# Altium schematic symbol library Miscellaneous Devices.SchLib: 201 symbols (part 2 of 3)
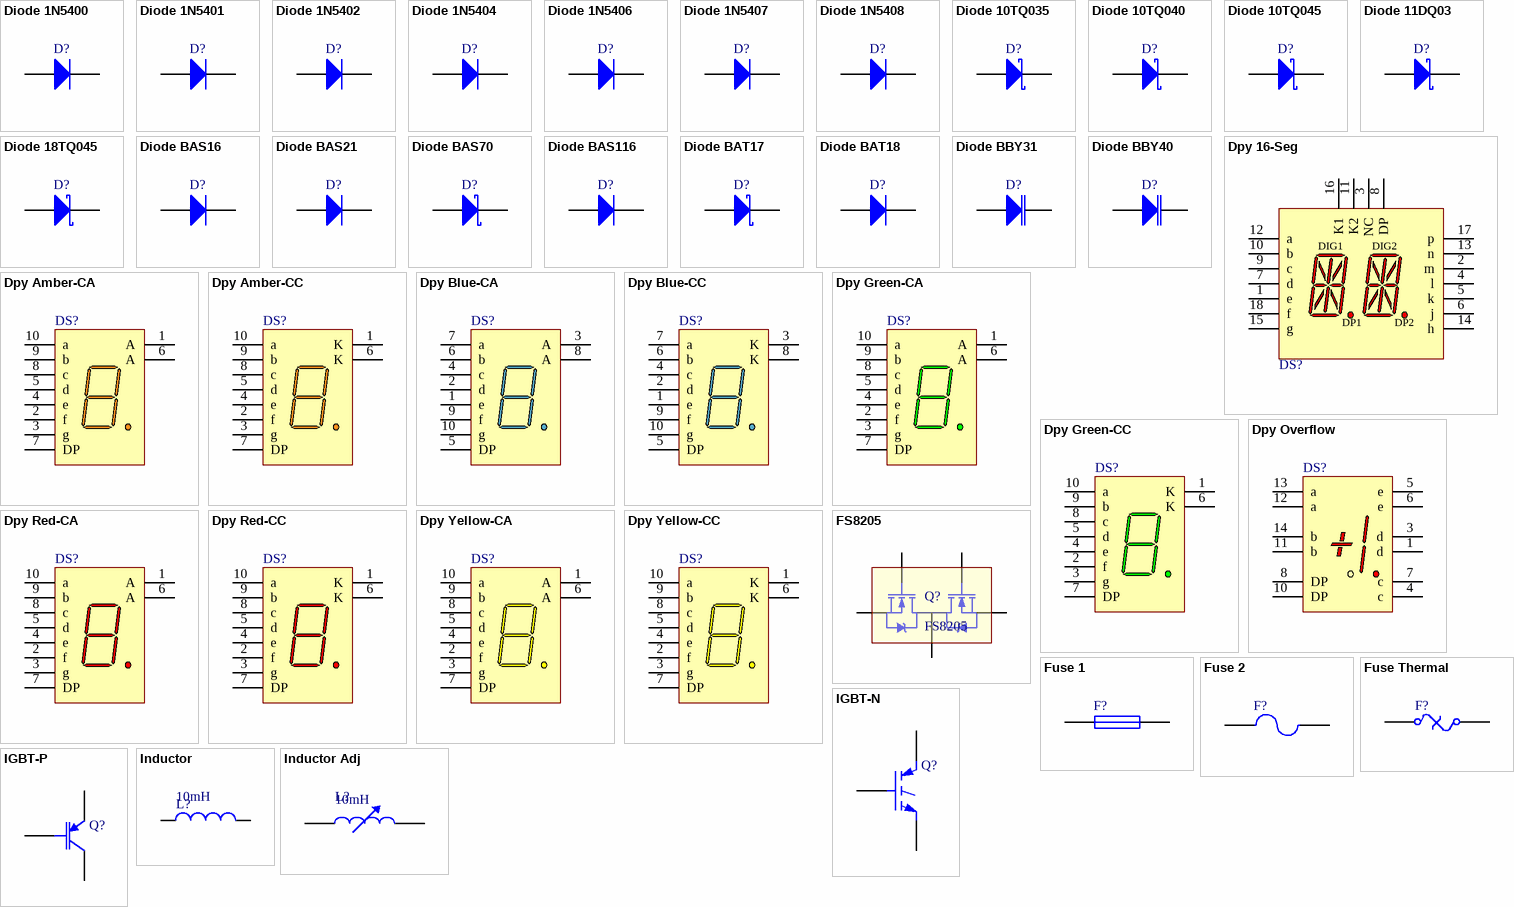
[diagram p6: symbols Diode 1N5400 to Inductor Adj]

## Dpy Yellow-CA
designator DS?
7.6 mm Micro Bright Yellow 7-Segment Display: CA, RH DP; MinimumIntensity: 225 ucd; Note: IF = 5 mA; Note: Pins 1 and 6 are redundant Anodes.; Published: 8-Jun-2000; LatestRevisionDate: 17-Dec-2003; LatestRevisionNote: Schematic revised, PCB Footprint replaced.; DatasheetVersion: 11-Feb-2002; PackageVersion: 11-Feb-2002; PackageReference: A; Publisher: Altium Limited; PackageDescription: LED, 7-Segment Display, 7.62 mm, RHD; 10 Leads; Row Space 5.08 mm; Pitch 2.54 mm; Colour: Yellow; ComponentLink1Description: Manufacturer Link; ComponentLink1URL: http://www.agilent.com/
footprint A (LED, 7-Segment Display, 7.62 mm, RHD; 10 Leads; Row Space 5.08 mm; Pitch 2.54 mm)
simulation model HDSP_7401 (SUBCKT)
pins: 1 A "Anode", 2 f "Cathode", 3 g "Cathode", 4 e "Cathode", 5 d "Cathode", 6 A "Anode", 7 DP "Cathode", 8 c "Cathode", 9 b "Cathode", 10 a "Cathode"

## Dpy Yellow-CC
designator DS?
7.6 mm Micro Bright Yellow 7-Segment Display: CC, RH DP; MinimumIntensity: 225 ucd; Note: IF = 5 mA; Note: Pins 1 and 6 are redundant Cathodes.; Published: 8-Jun-2000; LatestRevisionDate: 17-Dec-2003; LatestRevisionNote: Schematic revised, PCB Footprint replaced.; DatasheetVersion: 11-Feb-2002; PackageVersion: 11-Feb-2002; PackageReference: A; Publisher: Altium Limited; PackageDescription: LED, 7-Segment Display, 7.62 mm, RHD; 10 Leads; Row Space 5.08 mm; Pitch 2.54 mm; Colour: Yellow; ComponentLink1Description: Manufacturer Link; ComponentLink1URL: http://www.agilent.com/
footprint A (LED, 7-Segment Display, 7.62 mm, RHD; 10 Leads; Row Space 5.08 mm; Pitch 2.54 mm)
simulation model HDSP_7403 (SUBCKT)
pins: 1 K "Cathode", 2 f "Anode", 3 g "Anode", 4 e "Anode", 5 d "Anode", 6 K "Cathode", 7 DP "Anode", 8 c "Anode", 9 b "Anode", 10 a "Anode"

## FS8205
designator Q?
FS8205 Dual MOS
footprint SOT23-6_N (SOT23, 6-Leads, Body 2.9x1.6mm, Pitch 0.95mm, Lead Span 2.7mm, IPC Medium Density)
pins: 1 S1, 2 D12, 3 S2, 4 G2, 5 D12, 6 G1

## Fuse 1
designator F?
Fuse; Published: 8-Jun-2000; LatestRevisionDate: 17-Jul-2002; LatestRevisionNote: Re-released for DXP Platform.; PackageReference: PIN-W2/E2.8; Publisher: Altium Limited; PackageDescription: Thru-Hole; 2 Leads
footprint PIN-W2/E2.8 (Thru-Hole; 2 Leads)
simulation model FUSE (Spice Subcircuit)
pins: 1, 2

## Fuse 2
designator F?
Fuse; Published: 8-Jun-2000; LatestRevisionDate: 17-Jul-2002; LatestRevisionNote: Re-released for DXP Platform.; PackageReference: PIN-W2/E2.8; Publisher: Altium Limited; PackageDescription: Thru-Hole; 2 Leads
footprint PIN-W2/E2.8 (Thru-Hole; 2 Leads)
simulation model FUSE (Spice Subcircuit)
pins: 1, 2

## Fuse Thermal
designator F?
Thermal Fuse; Published: 24-Mar-1999; LatestRevisionDate: 17-Jul-2002; LatestRevisionNote: Re-released for DXP Platform.; PackageReference: PIN-W2/E2.8; Publisher: Altium Limited; PackageDescription: Thru-Hole; 2 Leads
footprint PIN-W2/E2.8 (Thru-Hole; 2 Leads)
pins: 1, 2

## IGBT-N
designator Q?
Insulated Gate Bipolar Transistor (N-Channel); Published: 8-Jun-2000; LatestRevisionDate: 17-Jul-2002; LatestRevisionNote: Re-released for DXP Platform.; DatasheetVersion: PD-9.684A; PackageReference: TO-247; Publisher: Altium Limited; PackageDescription: SIP with Mounting Hole; 3 Leads; Body 20 x 15.6 x 5 mm (typ); Pitch 5.45 mm; Code_JEDEC: TO-247-AC; ComponentLink1Description: Manufacturer Link; ComponentLink1URL: http://www.irf.com/
footprint TO-247 (SIP with Mounting Hole; 3 Leads; Body 20 x 15.6 x 5 mm (typ); Pitch 5.45 mm)
simulation model IRGPC40U (Spice Subcircuit)
pins: 1 G, 2 C, 3 E

## IGBT-P
designator Q?
PNP Bipolar Junction Transistor; Published: 8-Jun-2000; LatestRevisionDate: 17-Jul-2002; LatestRevisionNote: Re-released for DXP Platform.; PackageReference: TO-264-AA; Publisher: Altium Limited; Code_JEDEC: TO-264-AA
footprint TO-264-AA (SIP with Mounting Hole; 3 Leads; Body 26 x 20 x 5 mm (typ); Pitch 5.45 mm)
simulation model PIGBT (Spice Subcircuit)
pins: 1 C, 2 G, 3 E

## Inductor
designator L?  value 10mH
Inductor; Code_IEC: 1005; Published: 8-Jun-2000; LatestRevisionDate: 29-May-2009; LatestRevisionNote: IPC-7351 Footprint Added.; PackageReference: 0402-A; Publisher: Altium Limited; PackageDescription: Chip Inductor; Code_JEITA: 0402
footprint 0402-A (Chip Inductor, Body 1.0x0.5mm, IPC High Density)
footprint INDC1608L (Chip Inductor, Body 1.6x0.8mm, IPC High Density)
footprint 2029 (Chip Inductor, Body 2.0x1.2mm, IPC High Density)
footprint 0603 (Chip Inductor, Body 0.6x0.3mm, IPC High Density)
footprint INDC3216 (Chip Inductor, Body 3.2x1.6mm, IPC High Density)
footprint INDC4532 (Chip Inductor, Body 4.5x3.2mm, IPC High Density)
simulation model INDUCTOR (Inductor)
signal-integrity model Inductor
pins: 1, 2

## Inductor Adj
designator L?  value 10mH
Adjustable Inductor; Set Position: 0.5; Published: 24-Mar-1999; LatestRevisionDate: 17-Jul-2002; LatestRevisionNote: Re-released for DXP Platform.; PackageReference: AXIAL-0.8; Publisher: Altium Limited; PackageDescription: Axial Device, Thru-Hole; 2 Leads; 0.8 in Pin Spacing
footprint AXIAL-0.8 (Axial Device, Thru-Hole; 2 Leads; 0.8 in Pin Spacing)
simulation model INDUCTOR (Inductor)
signal-integrity model Inductor Adj
pins: 1, 2

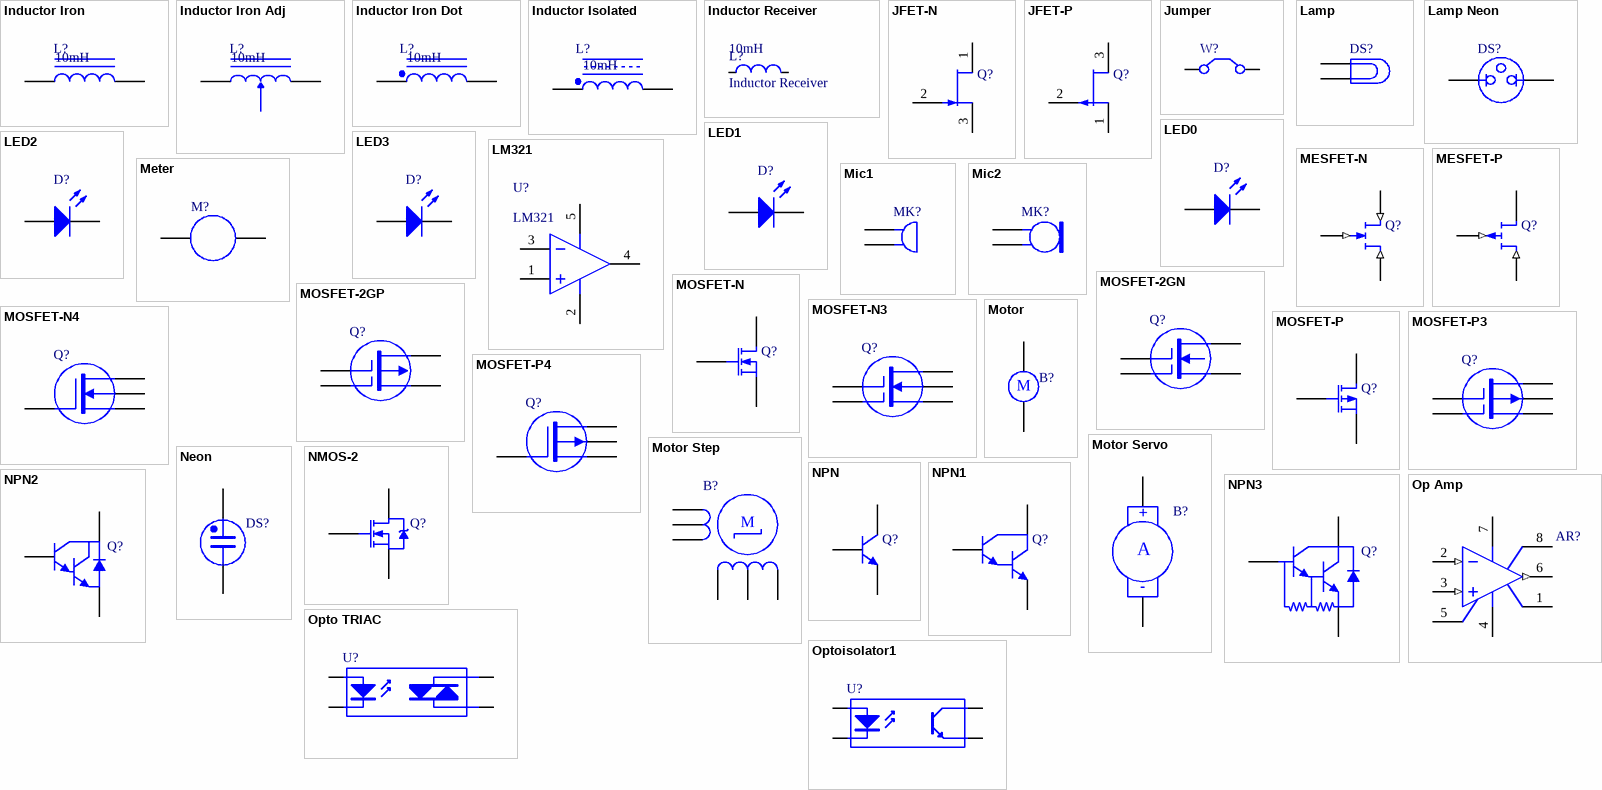
[diagram p2: symbols Inductor Iron to Optoisolator1]

## Inductor Iron
designator L?  value 10mH
Magnetic-Core Inductor; Published: 24-Mar-1999; LatestRevisionDate: 17-Jul-2002; LatestRevisionNote: Re-released for DXP Platform.; PackageReference: AXIAL-0.9; Publisher: Altium Limited; PackageDescription: Axial Device, Thru-Hole; 2 Leads; 0.9 in Pin Spacing
footprint AXIAL-0.9 (Axial Device, Thru-Hole; 2 Leads; 0.9 in Pin Spacing)
simulation model INDUCTOR (Inductor)
signal-integrity model Inductor Iron
pins: 1, 2

## Inductor Iron Adj
designator L?  value 10mH
Adjustable Magnetic-Core Inductor; Set Position: 0.5; Published: 24-Mar-1999; LatestRevisionDate: 17-Jul-2002; LatestRevisionNote: Re-released for DXP Platform.; PackageReference: AXIAL-1.0; Publisher: Altium Limited; PackageDescription: Axial Device, Thru-Hole; 2 Leads; 1.0 in Pin Spacing
footprint AXIAL-1.0 (Axial Device, Thru-Hole; 2 Leads; 1.0 in Pin Spacing)
simulation model INDUCTOR (Inductor)
signal-integrity model Inductor Iron Adj
pins: 1, 2

## Inductor Iron Dot
designator L?  value 10mH
Magnetic-Core Inductor with Winding Polarity Marking; Published: 24-Mar-1999; LatestRevisionDate: 17-Jul-2002; LatestRevisionNote: Re-released for DXP Platform.; PackageReference: DIODE_SMC; Publisher: Altium Limited; PackageDescription: Diode; 2 Leads
footprint DIODE_SMC (Diode; 2 Leads)
signal-integrity model Inductor Iron Dot
pins: 1, 2

## Inductor Isolated
designator L?  value 10mH
Isolated Inductor; Published: 24-Mar-1999; LatestRevisionDate: 17-Jul-2002; LatestRevisionNote: Re-released for DXP Platform.; PackageVersion: 1988; PackageReference: 425; Publisher: Altium Limited; PackageDescription: SOD-123; 2 Leads; Body 2.7 x 1.6 mm, (LxW)
footprint 425 (SOD-123; 2 Leads; Body 2.7 x 1.6 mm, (LxW))
signal-integrity model Inductor Isolated
pins: 1, 2

## Inductor Receiver
designator L?  value 10mH
Inductor; Code_IEC: 1005; Published: 8-Jun-2000; LatestRevisionDate: 29-May-2009; LatestRevisionNote: IPC-7351 Footprint Added.; PackageReference: 0402-A; Publisher: Altium Limited; PackageDescription: Chip Inductor; Code_JEITA: 0402
footprint 0402-A (Chip Inductor, Body 1.0x0.5mm, IPC High Density)
footprint INDC1608L (Chip Inductor, Body 1.6x0.8mm, IPC High Density)
footprint 2029 (Chip Inductor, Body 2.0x1.2mm, IPC High Density)
footprint 0603 (Chip Inductor, Body 0.6x0.3mm, IPC High Density)
footprint INDC3216 (Chip Inductor, Body 3.2x1.6mm, IPC High Density)
footprint INDC4532 (Chip Inductor, Body 4.5x3.2mm, IPC High Density)
simulation model INDUCTOR (Inductor)
signal-integrity model Inductor
pins: 1, 2

## JFET-N
designator Q?
N-Channel JFET; Published: 8-Jun-2000; LatestRevisionDate: 17-Jul-2002; LatestRevisionNote: Re-released for DXP Platform.; PackageReference: TO-254-AA; Publisher: Altium Limited; Code_JEDEC: TO-254-AA
footprint TO-254-AA (TO, Thru-Hole, Vertical, Heatsink Mounted; 3 In-Line Leads; Pitch 3.81 mm)
simulation model NJFET
pins: 1 D, 2 G, 3 S

## JFET-P
designator Q?
P-Channel JFET; Published: 8-Jun-2000; LatestRevisionDate: 17-Jul-2002; LatestRevisionNote: Re-released for DXP Platform.; PackageReference: TO-18A; Publisher: Altium Limited; PackageDescription: SC-89; 3 Flat Leads; Body 1.6 x 1.6 x 0.7 mm, inc leads (LxWxH typ)
footprint TO-18A (SC-89; 3 Flat Leads; Body 1.6 x 1.6 x 0.7 mm, inc leads (LxWxH typ))
simulation model PJFET
pins: 1 D, 2 G, 3 S

## Jumper
designator W?
Jumper Wire; Published: 24-Mar-1999; LatestRevisionDate: 17-Jul-2002; LatestRevisionNote: Re-released for DXP Platform.; PackageReference: RAD-0.2; Publisher: Altium Limited; PackageDescription: Radial Cap, Thru-Hole; 2 Leads; 0.2 in Pin Spacing
footprint RAD-0.2 (Radial Cap, Thru-Hole; 2 Leads; 0.2 in Pin Spacing)
pins: 1 C1, 2 C2

## Lamp
designator DS?
Incandescent Bulb; Published: 24-Mar-1999; LatestRevisionDate: 17-Jul-2002; LatestRevisionNote: Re-released for DXP Platform.; PackageReference: PIN2; Publisher: Altium Limited
footprint PIN2 (Incandescent Bulb; 2 Leads)
pins: 1, 2

## Lamp Neon
designator DS?
Neon Lamp; Published: 24-Mar-1999; LatestRevisionDate: 17-Jul-2002; LatestRevisionNote: Re-released for DXP Platform.; PackageReference: PIN2; Publisher: Altium Limited
footprint PIN2 (Neon Lamp; 2 Leads)
pins: 1, 2

## LED0
designator D?
Typical INFRARED GaAs LED; Published: 8-Jun-2000; LatestRevisionDate: 08-Jul-2005; LatestRevisionNote: Mech Layer 1 removed.; PackageReference: LED-0; Publisher: Altium Limited; PackageDescription: LED; 2 Leads
footprint LED-0 (LED; 2 Leads)
simulation model LED0 (Diode)
pins: 1 A, 2 K

## LED1
designator D?
Typical RED GaAs LED; Published: 8-Jun-2000; LatestRevisionDate: 08-Jul-2005; LatestRevisionNote: Mech Layer 1 removed.; PackageReference: LED-1; Publisher: Altium Limited; PackageDescription: LED; 2 Leads
footprint LED-1 (LED; 2 Leads)
simulation model LED1 (Diode)
pins: 1 A, 2 K

## LED2
designator D?
Typical RED, GREEN, YELLOW, AMBER GaAs LED; Published: 8-Jun-2000; LatestRevisionDate: 17-Jul-2002; LatestRevisionNote: Re-released for DXP Platform.; PackageVersion: Feb-2002; PackageReference: 3.2X1.6X1.1; Publisher: Altium Limited; PackageDescription: SM LED; 2 Flat Leads
footprint 3.2X1.6X1.1 (SMT LED; 2 Flat Leads)
simulation model LED2 (Diode)
pins: 1 A, 2 K

## LED3
designator D?
Typical BLUE SiC LED; Published: 8-Jun-2000; LatestRevisionDate: 17-Dec-2003; LatestRevisionNote: PCB Footprint replaced.; DatasheetVersion: 16-Apr-2002; PackageVersion: 16-Apr-2002; PackageReference: 3.5X2.8X1.9; Publisher: Altium Limited; PackageDescription: SM LED; 2 C-Bend Leads; Body 3.5 x 2.8 x 1.9 mm, inc leads (LxWxH typ)
footprint 3.5X2.8X1.9 (SM LED; 2 C-Bend Leads; Body 3.5 x 2.8 x 1.9 mm, inc leads (LxWxH typ))
simulation model LED3 (Diode)
signal-integrity model LED
pins: 1 A, 2 K

## LM321
designator U?
Op Amp
footprint SOT23_5
pins: 1 IN+, 2 V- (power), 3 IN-, 4 OUT, 5 V+ (power)

## MESFET-N
designator Q?
N-Channel MESFET; Published: 8-Jun-2000; LatestRevisionDate: 17-Jul-2002; LatestRevisionNote: Re-released for DXP Platform.; PackageReference: TO-18; Publisher: Altium Limited; PackageDescription: Can; 3 Leads; Pin Circle Dia. 2.54 mm; Lead Dia. 0.48 mm (max); Code_JEDEC: TO-18
footprint TO-18 (Can; 3 Leads; Pin Circle Dia. 2.54 mm; Lead Dia. 0.48 mm (max))
simulation model NMESFET (MESFET-N)
pins: 1 D (in), 2 G (in), 3 S (in)

## MESFET-P
designator Q?
P-Channel MESFET; Published: 8-Jun-2000; LatestRevisionDate: 17-Jul-2002; LatestRevisionNote: Re-released for DXP Platform.; PackageReference: TO-18; Publisher: Altium Limited; PackageDescription: Can; 3 Leads; Pin Circle Dia. 2.54 mm; Lead Dia. 0.48 mm (max); Code_JEDEC: TO-18
footprint TO-18 (Can; 3 Leads; Pin Circle Dia. 2.54 mm; Lead Dia. 0.48 mm (max))
simulation model PMESFET (MESFET-P)
pins: 1 D (in), 2 G (in), 3 S

## Meter
designator M?
Indicating Instrument; Note: Place a "letter" into the symbol to show the function of the meter or instrument; Published: 24-Mar-1999; LatestRevisionDate: 17-Jul-2002; LatestRevisionNote: Re-released for DXP Platform.; PackageReference: RAD-0.1; Publisher: Altium Limited; PackageDescription: Radial Cap, Thru-Hole; 2 Leads; 0.1 in Pin Spacing
footprint RAD-0.1 (Radial Cap, Thru-Hole; 2 Leads; 0.1 in Pin Spacing)
pins: 1, 2

## Mic1
designator MK?
Microphone; Published: 24-Mar-1999; LatestRevisionDate: 17-Jul-2002; LatestRevisionNote: Re-released for DXP Platform.; PackageReference: PIN2; Publisher: Altium Limited
footprint PIN2 (Microphone; 2 Leads)
pins: 1, 2

## Mic2
designator MK?
Microphone; Published: 24-Mar-1999; LatestRevisionDate: 17-Jul-2002; LatestRevisionNote: Re-released for DXP Platform.; PackageReference: PIN2; Publisher: Altium Limited
footprint PIN2 (Microphone; 2 Leads)
pins: 1, 2

## MOSFET-2GN
designator Q?
Two-Gate, N-Channel MOSFET; Published: 24-Mar-1999; LatestRevisionDate: 17-Jul-2002; LatestRevisionNote: Re-released for DXP Platform.; PackageReference: T05A; Publisher: Altium Limited; PackageDescription: TO-220, Molded, 5 Lead, Straight; Code_JEDEC: TS-001-AA
footprint T05A (TO, Thru-Hole, Vertical, Heatsink Mounted; 5 In-Line Leads; Pitch 1.70 mm)
pins: 1 G1, 2 G2, 3 D, 4 S

## MOSFET-2GP
designator Q?
Two-Gate, P-Channel MOSFET; Published: 24-Mar-1999; LatestRevisionDate: 29-May-2009; LatestRevisionNote: IPC-7351 Footprint Added.; PackageVersion: Sep-2000; PackageReference: SOT-143; Publisher: Altium Limited; PackageDescription: 4-Pin SOT-143 Package 1.9 mm Pitch, 2.5 mm Lead Span; Code_JEDEC: TO-253-AA; Code_IPC: SOT143
footprint SOT-143_N (SOT143, 4-Leads, Body 2.9x1.3mm, Pitch 1.9mm, Lead Span 2.5mm, IPC Medium Density)
footprint SOT-143_L (SOT143, 4-Leads, Body 2.9x1.3mm, Pitch 1.9mm, Lead Span 2.5mm, IPC High Density)
footprint SOT-143_M (SOT143, 4-Leads, Body 2.9x1.3mm, Pitch 1.9mm, Lead Span 2.5mm, IPC Low Density)
pins: 1 G1, 2 G2, 3 D, 4 S

## MOSFET-N
designator Q?
N-Channel MOSFET; Published: 8-Jun-2000; LatestRevisionDate: 17-Jul-2002; LatestRevisionNote: Re-released for DXP Platform.; PackageVersion: 1995/1996; PackageReference: E3; Publisher: Altium Limited; PackageDescription: TO, Flat Index; 3 In-Line, Axial Leads; Body Dia. 4.6mm; Lead Dia. 0.5 mm (max)
footprint E3 (TO, Flat Index; 3 In-Line, Axial Leads; Body Dia. 4.6mm; Lead Dia. 0.5 mm (max))
simulation model NMOS (MOSFET-N)
pins: 1 D, 2 G, 3 S

## MOSFET-N3
designator Q?
Two-Gate, N-Channel MOSFET, Externally Terminated Substrate; Published: 24-Mar-1999; LatestRevisionDate: 17-Jul-2002; LatestRevisionNote: Re-released for DXP Platform.; PackageReference: T05A; Publisher: Altium Limited; PackageDescription: TO-220, Molded, 5 Lead, Straight; Code_JEDEC: TS-001-AA
footprint T05A (TO, Thru-Hole, Vertical, Heatsink Mounted; 5 In-Line Leads; Pitch 1.70 mm)
pins: 1 G1, 2 G2, 3 D, 4 U, 5 S

## MOSFET-N4
designator Q?
N-Channel MOSFET, Externally Terminated Substrate; Published: 24-Mar-1999; LatestRevisionDate: 29-May-2009; LatestRevisionNote: IPC-7351 Footprint Added.; PackageVersion: Sep-2000; PackageReference: SOT-343; Publisher: Altium Limited; PackageDescription: 4-Pin SOT-343 Package 1.3 mm Pitch, 2.1 mm Lead Span
footprint SOT-343_N (SOT343, 4-Leads, Body 2x1.3 mm, Pitch 1.3mm, Lead Span 2.1mm, IPC Medium Density)
footprint SOT-343_L (SOT343, 4-Leads, Body 2x1.3 mm, Pitch 1.3mm, Lead Span 2.1mm, IPC High Density)
footprint SOT-343_M (SOT343, 4-Leads, Body 2x1.3 mm, Pitch 1.3mm, Lead Span 2.1mm, IPC Low Density)
simulation model NMOS (MOSFET-N)
pins: 1 G, 2 D, 3 U, 4 S

## MOSFET-P
designator Q?
P-Channel MOSFET; Published: 8-Jun-2000; LatestRevisionDate: 17-Jul-2002; LatestRevisionNote: Re-released for DXP Platform.; PackageVersion: 1995/1996; PackageReference: E3; Publisher: Altium Limited; PackageDescription: TO, Flat Index; 3 In-Line, Axial Leads; Body Dia. 4.6mm; Lead Dia. 0.5 mm (max)
footprint E3 (TO, Flat Index; 3 In-Line, Axial Leads; Body Dia. 4.6mm; Lead Dia. 0.5 mm (max))
simulation model PMOS (MOSFET-P)
pins: 1 D, 2 G, 3 S

## MOSFET-P3
designator Q?
Two-Gate, P-Channel MOSFET, Externally Terminated Substrate; Published: 24-Mar-1999; LatestRevisionDate: 17-Jul-2002; LatestRevisionNote: Re-released for DXP Platform.; PackageReference: T05B; Publisher: Altium Limited; PackageDescription: TO, Thru-Hole, Vertical, Heatsink Mounted; 5 Bent Staggered Leads; Pitch 1.7 mm
footprint T05B (TO, Thru-Hole, Vertical, Heatsink Mounted; 5 Bent Staggered Leads; Pitch 1.7 mm)
pins: 1 G1, 2 G2, 3 D, 4 U, 5 S

## MOSFET-P4
designator Q?
P-Channel MOSFET, Externally Terminated Substrate; Published: 24-Mar-1999; LatestRevisionDate: 29-May-2009; LatestRevisionNote: IPC-7351 Footprint Added.; PackageVersion: 2002; PackageReference: SOT223; Publisher: Altium Limited; PackageDescription: 4-Pin SOT-223 Package 2.3 mm Pitch, 7 mm Lead Span; Code_JEITA: SC-75; Code_JEDEC: TO-261-AA-B; Code_IPC: SOT223-4
footprint SOT223_N (SOT223, 4-Leads, Body 6.5x3.5mm, Pitch 2.3mm, Lead Span 7mm, IPC Medium Density)
footprint SOT223_L (SOT223, 4-Leads, Body 6.5x3.5mm, Pitch 2.3mm, Lead Span 7mm, IPC High Density)
footprint SOT223_M (SOT223, 4-Leads, Body 6.5x3.5mm, Pitch 2.3mm, Lead Span 7mm, IPC Low Density)
simulation model PMOS (MOSFET-P)
pins: 1 G, 2 D, 3 U, 4 S

## Motor
designator B?
Motor, General Kind; Published: 24-Mar-1999; LatestRevisionDate: 17-Jul-2002; LatestRevisionNote: Re-released for DXP Platform.; PackageReference: RB5-10.5; Publisher: Altium Limited; PackageDescription: Capacitor (Radial); 2 Leads
footprint RB5-10.5 (Capacitor (Radial); 2 Leads)
pins: 1, 2
text: M

## Motor Servo
designator B?
Servo Motor; Published: 24-Mar-1999; LatestRevisionDate: 17-Jul-2002; LatestRevisionNote: Re-released for DXP Platform.; PackageReference: RAD-0.4; Publisher: Altium Limited; PackageDescription: Radial Cap, Thru-Hole; 2 Leads; 0.4 in Pin Spacing
footprint RAD-0.4 (Radial Cap, Thru-Hole; 2 Leads; 0.4 in Pin Spacing)
pins: 1 +, 2 -
text: A

## Motor Step
designator B?
Motor Stepper; Published: 24-Mar-1999; LatestRevisionDate: 17-Jul-2002; LatestRevisionNote: Re-released for DXP Platform.; PackageReference: DIP-6; Publisher: Altium Limited; Code_JEDEC: MO-001-AM
footprint DIP-6 (DIP; 6 Leads; Row Spacing 7.62 mm; Pitch 2.54 mm)
pins: 1, 2, 3, 4, 5, 6
text: M

## Neon
designator DS?
Neon Bulb; Published: 24-Mar-1999; LatestRevisionDate: 17-Jul-2002; LatestRevisionNote: Re-released for DXP Platform.; PackageReference: PIN2; Publisher: Altium Limited
footprint PIN2 (Neon Bulb; 2 Leads)
pins: 1, 2

## NMOS-2
designator Q?
N-Channel Power MOSFET; Note: Pin 2 is electrically connected to pin 4.; Published: 8-Jun-2000; LatestRevisionDate: 17-Jul-2002; LatestRevisionNote: Re-released for DXP Platform.; DatasheetVersion: PD-9.814; PackageVersion: Feb-1997; PackageReference: TO-220AB; Publisher: Altium Limited; PackageDescription: TO, Thru-Hole, Vertical, Heatsink Mounted; 3 In-Line Leads; Pitch 2.54 mm; ComponentLink1Description: Manufacturer Link; ComponentLink1URL: http://www.irf.com/
footprint TO-220AB (TO, Thru-Hole, Vertical, Heatsink Mounted; 3 In-Line Leads; Pitch 2.54 mm)
simulation model IRF1010 (Spice Subcircuit)
pins: 1 G, 2 D, 3 S

## NPN
designator Q?
NPN Bipolar Transistor; Published: 8-Jun-2000; LatestRevisionDate: 17-Jul-2002; LatestRevisionNote: Re-released for DXP Platform.; PackageReference: TO-226-AA; Publisher: Altium Limited; PackageDescription: TO, Flat Index; 3 In-Line, Axial Leads; Body Dia. 4.8mm; Leads 0.55 x 0.51 mm (max); Code_JEDEC: TO-226-AA
footprint TO-226-AA (TO, Flat Index; 3 In-Line, Axial Leads; Body Dia. 4.8mm; Leads 0.55 x 0.51 mm (max))
simulation model NPN
signal-integrity model NPN
pins: 1 C, 2 B, 3 E

## NPN1
designator Q?
NPN Darlington Bipolar Transistor; Published: 8-Jun-2000; LatestRevisionDate: 17-Jul-2002; LatestRevisionNote: Re-released for DXP Platform.; DatasheetVersion: 1989; PackageVersion: 1989; PackageReference: TO-92; Publisher: Altium Limited; PackageDescription: TO, Flat Index; 3 In-Line, Axial Leads; Body Dia. 4.6mm; Leads 0.41 x 0.39 mm (max); Code_JEDEC: TO-92
footprint TO-92 (TO, Flat Index; 3 In-Line, Axial Leads; Body Dia. 4.6mm; Leads 0.41 x 0.39 mm (max))
simulation model NPN1 (Spice Subcircuit)
signal-integrity model NPN
pins: 1 C, 2 B, 3 E

## NPN2
designator Q?
NPN Darlington Bipolar Transistor; Published: 8-Jun-2000; LatestRevisionDate: 17-Jul-2002; LatestRevisionNote: Re-released for DXP Platform.; PackageReference: TO-226-AE; Publisher: Altium Limited; PackageDescription: TO, Flat Index; 3 In-Line, Axial Leads; Body Dia. 4.8mm; Leads 0.55 x 0.51 mm (max); Code_JEDEC: TO-226-AE
footprint TO-226-AE (TO, Flat Index; 3 In-Line, Axial Leads; Body Dia. 4.8mm; Leads 0.55 x 0.51 mm (max))
simulation model NPN2 (Spice Subcircuit)
signal-integrity model NPN
pins: 1 C, 2 B, 3 E

## NPN3
designator Q?
NPN Darlington Bipolar Transistor; Published: 8-Jun-2000; LatestRevisionDate: 17-Jul-2002; LatestRevisionNote: Re-released for DXP Platform.; PackageReference: TO-237-AA; Publisher: Altium Limited; PackageDescription: TO, Flat Index; 3 In-Line, Axial Leads; Body Dia. 4.8mm; Lead Dia. 0.56 mm (max); Code_JEDEC: TO-237-AA
footprint TO-237-AA (TO, Flat Index; 3 In-Line, Axial Leads; Body Dia. 4.8mm; Lead Dia. 0.56 mm (max))
simulation model NPN3 (Spice Subcircuit)
signal-integrity model NPN
pins: 1 C, 2 B, 3 E

## Op Amp
designator AR?
FET Operational Amplifier; Published: 8-Jun-2000; LatestRevisionDate: 17-Jul-2002; LatestRevisionNote: Re-released for DXP Platform.; DatasheetVersion: REV. B; PackageVersion: 1990; PackageReference: H-08A; Publisher: Altium Limited; PackageDescription: Can; 8 Leads; Pin Circle Dia. 5.08 mm; Lead Dia. 0.53 mm (max); ComponentLink1Description: Manufacturer Link; ComponentLink1URL: http://www.analog.com/
footprint H-08A (Can; 8 Leads; Pin Circle Dia. 5.08 mm; Lead Dia. 0.53 mm (max))
simulation model AD645A (Spice Subcircuit)
pins: 1 OS NUL, 2 IN- (in), 3 IN+ (in), 4 V- (power), 5 OS NUL, 6 OUT (out), 7 V+ (power), 8 TAB

## Opto TRIAC
designator U?
Opto-Triac; Published: 24-Mar-1999; LatestRevisionDate: 17-Jul-2002; LatestRevisionNote: Re-released for DXP Platform.; PackageReference: NPSIP4A; Publisher: Altium Limited; PackageDescription: SIP; 4 Leads; Body 10 x 11.5 x 7.5 mm (typ); Pitch 2.54 mm
footprint NPSIP4A (SIP; 4 Leads; Body 10 x 11.5 x 7.5 mm (typ); Pitch 2.54 mm)
pins: 1 A, 2 K, 3 A/K, 4 A/K

## Optoisolator1
designator U?
4-Pin Phototransistor Optocoupler; Published: 24-Mar-1999; LatestRevisionDate: 04-Mar-2005; LatestRevisionNote: Sch pins 3 & 4 Swapped.; DatasheetVersion: Nov-2003; PackageReference: DIP-4; Publisher: Altium Limited
footprint DIP-4 (DIP; 4 Leads; Row Spacing 7.62 mm; Pitch 2.54 mm)
pins: 1 A "Anode", 2 K "Cathode", 3 E "Emitter", 4 C "Collector"

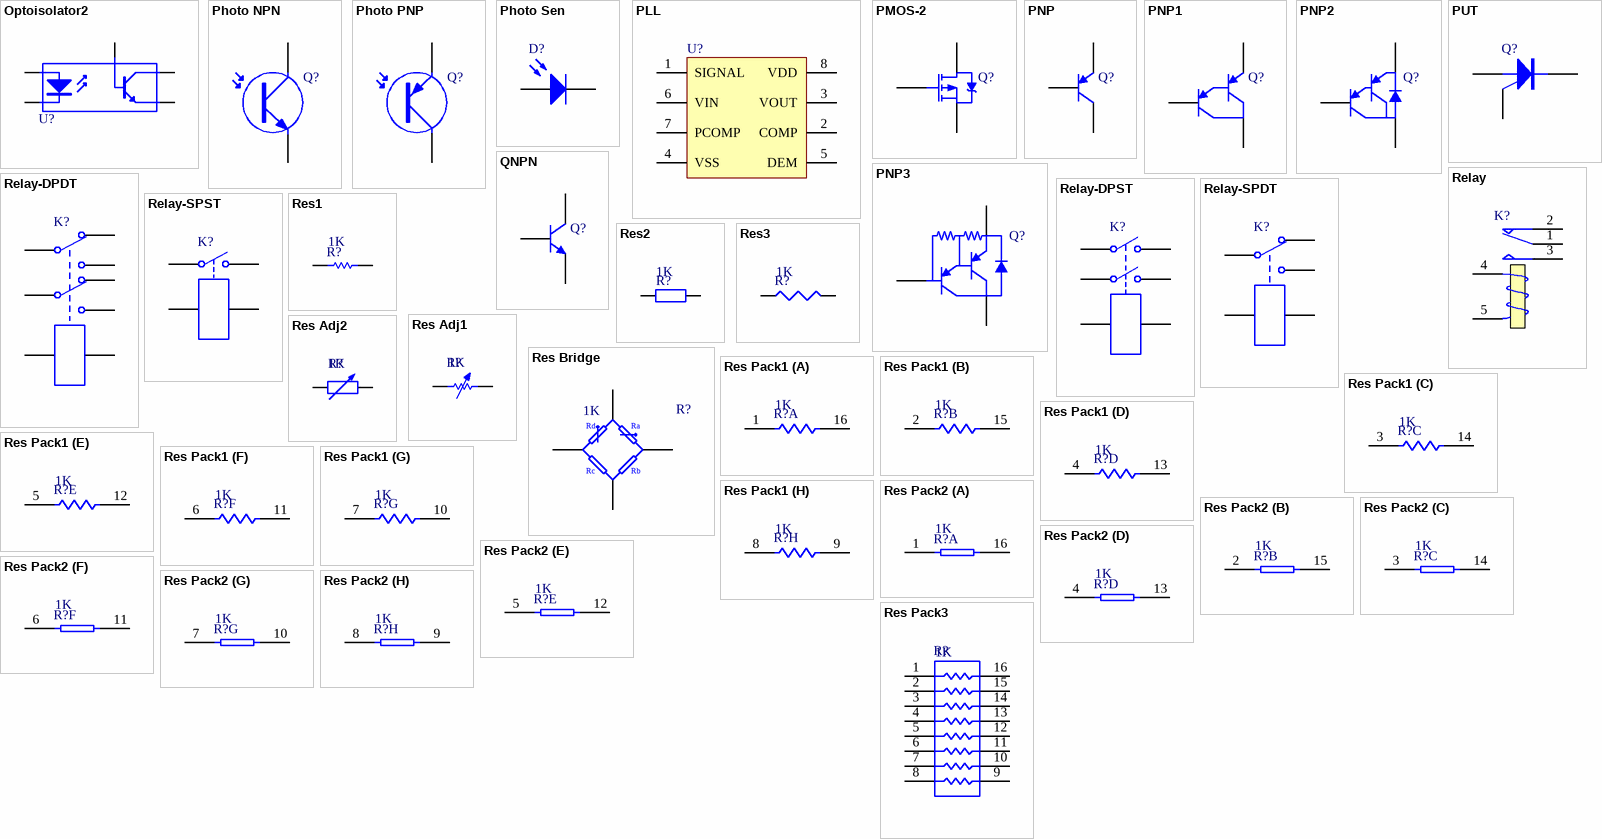
[diagram p3: symbols Optoisolator2 to Res Pack3]

## Optoisolator2
designator U?
5 Pin Mini Flat Pack Optocoupler; Published: 24-Mar-1999; LatestRevisionDate: 04-Mar-2005; LatestRevisionNote: PCB Footprint replaced, Sch pins re-numbered.; DatasheetVersion: Apr-2004; PackageReference: SOP5(6); Publisher: Altium Limited; PackageDescription: Small Outline; 6 Leads (1 Absent); Body Width 4.4 mm; Pitch 1.27 mm
footprint SOP5(6) (Small Outline; 6 Leads (1 Absent); Body Width 4.4 mm; Pitch 1.27 mm)
simulation model OPTOISO (Spice Subcircuit)
pins: 1 A "Anode", 3 K "Cathode", 4 E "Emitter", 5 C "Collector", 6 B "Base"

## Photo NPN
designator Q?
NPN Phototransistor; Published: 24-Mar-1999; LatestRevisionDate: 17-Jul-2002; LatestRevisionNote: Re-released for DXP Platform.; PackageReference: TO-220_A; Publisher: Altium Limited; Code_JEDEC: TO-220-AC
footprint TO-220_A (TO, Thru-Hole, Vertical, Heatsink Mounted; 3 In-Line Leads (1 Absent); Pitch 2.54 mm)
pins: 1 C, 3 E

## Photo PNP
designator Q?
PNP Phototransistor; Published: 24-Mar-1999; LatestRevisionDate: 17-Jul-2002; LatestRevisionNote: Re-released for DXP Platform.; PackageReference: TO-220_A; Publisher: Altium Limited; Code_JEDEC: TO-220-AC
footprint TO-220_A (TO, Thru-Hole, Vertical, Heatsink Mounted; 3 In-Line Leads (1 Absent); Pitch 2.54 mm)
pins: 1 C, 3 E

## Photo Sen
designator D?
Photosensitive Diode; Published: 24-Mar-1999; LatestRevisionDate: 17-Jul-2002; LatestRevisionNote: Re-released for DXP Platform.; PackageReference: PIN2; Publisher: Altium Limited
footprint PIN2 (Photosensitive Diode; 2 Leads)
pins: 1 A, 2 K

## PLL
designator U?
Generic Phase Locked Loop; Published: 8-Jun-2000; LatestRevisionDate: 29-May-2009; LatestRevisionNote: IPC-7351 Footprint Added.; PackageVersion: May-1999; PackageReference: DB008; Publisher: Altium Limited; PackageDescription: 8-Pin Plastic Small Outline Package 0.65 mm Pitch; Code_JEDEC: MO-150-AA; Code_IPC: SOP65P780-8
footprint DB008_N (SOP, 8-Leads, Body 3x5.3mm, Pitch 0.65mm, IPC Medium Density)
footprint DB008_L (SOP, 8-Leads, Body 3x5.3mm, Pitch 0.65mm, IPC High Density)
footprint DB008_M (SOP, 8-Leads, Body 3x5.3mm, Pitch 0.65mm, IPC Low Density)
simulation model PLLx (Spice Subcircuit)
pins: 1 SIGNAL, 2 COMP, 3 VOUT, 4 VSS, 5 DEM, 6 VIN, 7 PCOMP, 8 VDD

## PMOS-2
designator Q?
P-Channel Power MOSFET; Note: Pin 4 not drawn and electrically connected to Pin 2.; Published: 8-Jun-2000; LatestRevisionDate: 17-Jul-2002; LatestRevisionNote: Re-released for DXP Platform.; DatasheetVersion: PD-9.390D; PackageVersion: Feb-1997; PackageReference: TO-220AB; Publisher: Altium Limited; PackageDescription: TO, Thru-Hole, Vertical, Heatsink Mounted; 3 In-Line Leads; Pitch 2.54 mm; ComponentLink1Description: Manufacturer Link; ComponentLink1URL: http://www.irf.com/
footprint TO-220AB (TO, Thru-Hole, Vertical, Heatsink Mounted; 3 In-Line Leads; Pitch 2.54 mm)
simulation model IRF9510 (Spice Subcircuit)
pins: 1 G, 2 D, 3 S

## PNP
designator Q?
PNP Bipolar Transistor; Published: 8-Jun-2000; LatestRevisionDate: 29-May-2009; LatestRevisionNote: IPC-7351 Footprint Added.; PackageVersion: Aug-1999; PackageReference: SOT-23B; Publisher: Altium Limited; PackageDescription: 3-Pin SOT-23 Package 0.95 mm Pitch, 2.4 mm Lead Span
footprint SOT-23B_N (SOT23, 3-Leads, Body 2.9x1.3mm, Pitch 0.95mm, Lead Span 2.4mm, IPC Medium Density)
footprint SOT-23B_L (SOT23, 3-Leads, Body 2.9x1.3mm, Pitch 0.95mm, Lead Span 2.4mm, IPC High Density)
footprint SOT-23B_M (SOT23, 3-Leads, Body 2.9x1.3mm, Pitch 0.95mm, Lead Span 2.4mm, IPC Low Density)
simulation model PNP
signal-integrity model PNP
pins: 1 C, 2 B, 3 E

## PNP1
designator Q?
PNP Darlington Bipolar Transistor; Published: 8-Jun-2000; LatestRevisionDate: 17-Jul-2002; LatestRevisionNote: Re-released for DXP Platform.; DatasheetVersion: May-1994; PackageVersion: 1995/1996; PackageReference: E3; Publisher: Altium Limited; PackageDescription: TO, Flat Index; 3 In-Line, Axial Leads; Body Dia. 4.6mm; Lead Dia. 0.5 mm (max); ComponentLink1Description: Manufacturer Link; ComponentLink1URL: http://www.zetex.com/
footprint E3 (TO, Flat Index; 3 In-Line, Axial Leads; Body Dia. 4.6mm; Lead Dia. 0.5 mm (max))
simulation model PNP1 (Spice Subcircuit)
signal-integrity model PNP
pins: 1 E, 2 B, 3 C

## PNP2
designator Q?
PNP Darlington Bipolar Transistor; Published: 8-Jun-2000; LatestRevisionDate: 17-Jul-2002; LatestRevisionNote: Re-released for DXP Platform.; PackageReference: TO-226-AE; Publisher: Altium Limited; PackageDescription: TO, Flat Index; 3 In-Line, Axial Leads; Body Dia. 4.8mm; Leads 0.55 x 0.51 mm (max); Code_JEDEC: TO-226-AA
footprint TO-226-AE (TO, Flat Index; 3 In-Line, Axial Leads; Body Dia. 4.8mm; Leads 0.55 x 0.51 mm (max))
simulation model PNP2 (Spice Subcircuit)
signal-integrity model PNP
pins: 1 C, 2 B, 3 E

## PNP3
designator Q?
PNP Darlington Bipolar Transistor; Published: 8-Jun-2000; LatestRevisionDate: 17-Jul-2002; LatestRevisionNote: Re-released for DXP Platform.; PackageReference: TO-226-AE; Publisher: Altium Limited; PackageDescription: TO, Flat Index; 3 In-Line, Axial Leads; Body Dia. 4.8mm; Leads 0.55 x 0.51 mm (max); Code_JEDEC: TO-226-AE
footprint TO-226-AE (TO, Flat Index; 3 In-Line, Axial Leads; Body Dia. 4.8mm; Leads 0.55 x 0.51 mm (max))
simulation model PNP3 (Spice Subcircuit)
signal-integrity model PNP
pins: 1 C, 2 B, 3 E

## PUT
designator Q?
Programmable Unijunction Transistor; Published: 8-Jun-2000; LatestRevisionDate: 17-Jul-2002; LatestRevisionNote: Re-released for DXP Platform.; PackageReference: TO-52; Publisher: Altium Limited; PackageDescription: Can; 3 Leads; Pin Circle Dia. 2.54 mm; Lead Dia. 0.48 mm (max)
footprint TO-52 (Can; 3 Leads; Pin Circle Dia. 2.54 mm; Lead Dia. 0.48 mm (max))
simulation model PUT (Spice Subcircuit)
pins: 1 A, 2 G, 3 K

## QNPN
designator Q?
NPN Bipolar Transistor; Published: 8-Jun-2000; LatestRevisionDate: 29-May-2009; LatestRevisionNote: IPC-7351 Footprint Added.; PackageVersion: Aug-1999; PackageReference: SOT-23B; Publisher: Altium Limited; PackageDescription: 3-Pin SOT-23 Package 0.95 mm Pitch, 2.4 mm Lead Span
footprint SOT-23B_N (SOT23, 3-Leads, Body 2.9x1.3mm, Pitch 0.95mm, Lead Span 2.4mm, IPC Medium Density)
footprint SOT-23B_L (SOT23, 3-Leads, Body 2.9x1.3mm, Pitch 0.95mm, Lead Span 2.4mm, IPC High Density)
footprint SOT-23B_M (SOT23, 3-Leads, Body 2.9x1.3mm, Pitch 0.95mm, Lead Span 2.4mm, IPC Low Density)
simulation model QNPN (NPN)
signal-integrity model NPN
pins: 1 C, 2 B, 3 E

## Relay
designator K?
SPDT Relay; Published: 8-Jun-2000; LatestRevisionDate: 17-Jul-2002; LatestRevisionNote: Re-released for DXP Platform.; PackageReference: MODULE5B; Publisher: Altium Limited
footprint MODULE5B (DIP; 5 Round Pins; Row Space 15.24 mm; Pitch 2.54 mm)
simulation model SPDTRELAY (Spice Subcircuit)
pins: 1 COM, 2 NC, 3 NO, 4 T1, 5 T2

## Relay-DPDT
designator K?
Dual-Pole Dual-Throw Relay; Published: 24-Mar-1999; LatestRevisionDate: 17-Jul-2002; LatestRevisionNote: Re-released for DXP Platform.; PackageReference: DIP-P8; Publisher: Altium Limited; PackageDescription: Relay; 8 Leads
footprint DIP-P8 (Dual-Pole Dual-Throw Relay; 8 Leads)
simulation model DPDTRELAY (Spice Subcircuit)
pins: 1, 2, 3, 4, 5, 6, 7, 8

## Relay-DPST
designator K?
Dual-Pole Single-Throw Relay; Published: 24-Mar-1999; LatestRevisionDate: 17-Jul-2002; LatestRevisionNote: Re-released for DXP Platform.; PackageReference: MODULE6; Publisher: Altium Limited
footprint MODULE6 (DIP; 6 Round Pins; Row Space 20.32 mm; Pitch 2.54 mm)
simulation model DPSTRELAY (Spice Subcircuit)
pins: 1, 2, 3, 4, 5, 6

## Relay-SPDT
designator K?
Single-Pole Dual-Throw Relay; Published: 24-Mar-1999; LatestRevisionDate: 17-Jul-2002; LatestRevisionNote: Re-released for DXP Platform.; PackageReference: MODULE5B; Publisher: Altium Limited
footprint MODULE5B (DIP; 5 Round Pins; Row Space 15.24 mm; Pitch 2.54 mm)
simulation model SPDTRELAY (Spice Subcircuit)
pins: 1, 2, 3, 4, 5

## Relay-SPST
designator K?
Single-Pole Single-Throw Relay; Published: 24-Mar-1999; LatestRevisionDate: 17-Jul-2002; LatestRevisionNote: Re-released for DXP Platform.; PackageReference: MODULE4; Publisher: Altium Limited
footprint MODULE4 (DIP; 4 Round Pins; Row Space 27.94 mm; Pitch 15.24 mm)
simulation model SPSTRELAY (Spice Subcircuit)
pins: 1, 2, 3, 4

## Res1
designator R?  value 1K
Resistor; Published: 8-Jun-2000; LatestRevisionDate: 17-Jul-2002; LatestRevisionNote: Re-released for DXP Platform.; PackageReference: AXIAL-0.3; Publisher: Altium Limited; PackageDescription: Axial Device, Thru-Hole; 2 Leads; 0.3 in Pin Spacing
footprint AXIAL-0.3 (Axial Device, Thru-Hole; 2 Leads; 0.3 in Pin Spacing)
simulation model RESISTOR (Resistor)
signal-integrity model Res
pins: 1, 2

## Res2
designator R?  value 1K
Resistor; Published: 8-Jun-2000; LatestRevisionDate: 17-Jul-2002; LatestRevisionNote: Re-released for DXP Platform.; PackageReference: AXIAL-0.4; Publisher: Altium Limited; PackageDescription: Axial Device, Thru-Hole; 2 Leads; 0.4 in Pin Spacing
footprint AXIAL-0.4 (Axial Device, Thru-Hole; 2 Leads; 0.4 in Pin Spacing)
simulation model RESISTOR (Resistor)
signal-integrity model Res
pins: 1, 2

## Res3
designator R?  value 1K
Resistor; Published: 8-Jun-2000; LatestRevisionDate: 29-May-2009; LatestRevisionNote: IPC-7351 Footprint Added.; PackageReference: J1-0603; Publisher: Altium Limited; PackageDescription: Chip Resistor
footprint J1-0603 (Chip Resistor, Body 1.6x0.8mm, IPC High Density)
footprint 14-1210 (Chip Resistor, Body 3.2x2.5mm, IPC High Density)
footprint 12Z-2010 (Chip Resistor, Body 5.0x2.5mm, IPC High Density)
footprint RESC6332 (Chip Resistor, Body 6.3x3.2mm, IPC High Density)
simulation model RESISTOR (Resistor)
signal-integrity model Res
pins: 1, 2

## Res Adj1
designator R?  value 1K
Variable Resistor; Set Position: 0.5; Published: 8-Jun-2000; LatestRevisionDate: 17-Jul-2002; LatestRevisionNote: Re-released for DXP Platform.; PackageReference: AXIAL-0.7; Publisher: Altium Limited; PackageDescription: Axial Device, Thru-Hole; 2 Leads; 0.7 in Pin Spacing
footprint AXIAL-0.7 (Axial Device, Thru-Hole; 2 Leads; 0.7 in Pin Spacing)
simulation model VRES (Variable Resistor)
signal-integrity model Res Adj
pins: 1, 2

## Res Adj2
designator R?  value 1K
Variable Resistor; Set Position: 0.5; Published: 8-Jun-2000; LatestRevisionDate: 17-Jul-2002; LatestRevisionNote: Re-released for DXP Platform.; PackageReference: AXIAL-0.6; Publisher: Altium Limited; PackageDescription: Axial Device, Thru-Hole; 2 Leads; 0.6 in Pin Spacing
footprint AXIAL-0.6 (Axial Device, Thru-Hole; 2 Leads; 0.6 in Pin Spacing)
simulation model VRES (Variable Resistor)
signal-integrity model Res Adj
pins: 1, 2

## Res Bridge
designator R?  value 1K
Resistor Bridge; Published: 24-Mar-1999; LatestRevisionDate: 17-Jul-2002; LatestRevisionNote: Re-released for DXP Platform.; PackageReference: P04A; Publisher: Altium Limited
footprint P04A (TO, Thru-Hole, Vertical, Heatsink Mounted; 4 In-Line Leads; Pitch 2.54 mm)
signal-integrity model Res Bridge
pins: 1, 2, 3, 4
text: Rd; Ra; Rc; Rb

## Res Pack1
designator R?  value 1K
Isolated Resistor Network - Parts; Sim Note: Enter the Resistance value into parameter field.; Published: 24-Mar-1999; LatestRevisionDate: 29-May-2009; LatestRevisionNote: IPC-7351 Footprint Added.; PackageReference: SOIC16; Publisher: Altium Limited; PackageDescription: 16-Pin Small Outline Integrated Circuit 1.27 mm Pitch; Code_JEDEC: MS-012-AC; Code_IPC: SOIC127P600-16
footprint SOIC16_N (SOIC, 16-Leads, Body 9.9x3.9mm, Pitch 1.27mm, IPC Medium Density)
footprint SOIC16_L (SOIC, 16-Leads, Body 9.9x3.9mm, Pitch 1.27mm, IPC High Density)
footprint SOIC16_M (SOIC, 16-Leads, Body 9.9x3.9mm, Pitch 1.27mm, IPC Low Density)
simulation model RESISTOR (Resistor)
signal-integrity model Res Pack
part A pins: 1, 16
part B pins: 2, 15
part C pins: 3, 14
part D pins: 4, 13
part E pins: 5, 12
part F pins: 6, 11
part G pins: 7, 10
part H pins: 8, 9

## Res Pack2
designator R?  value 1K
Isolated Resistor Network - Parts; Sim Note: Enter the Resistance value into parameter field.; Published: 24-Mar-1999; LatestRevisionDate: 17-Jul-2002; LatestRevisionNote: Re-released for DXP Platform.; PackageReference: DIP-16; Publisher: Altium Limited; Code_JEDEC: MO-001-AC
footprint DIP-16 (DIP; 16 Leads; Row Spacing 7.62 mm; Pitch 2.54 mm)
simulation model RESISTOR (Resistor)
signal-integrity model Res Pack
part A pins: 1, 16
part B pins: 2, 15
part C pins: 3, 14
part D pins: 4, 13
part E pins: 5, 12
part F pins: 6, 11
part G pins: 7, 10
part H pins: 8, 9

## Res Pack3
designator R?  value 1K
Isolated Resistor Network; Published: 24-Mar-1999; LatestRevisionDate: 29-May-2009; LatestRevisionNote: IPC-7351 Footprint Added.; PackageReference: SO-16; Publisher: Altium Limited; PackageDescription: 16-Pin Small Outline Integrated Circuit 1.27 mm Pitch; Code_JEDEC: MS-012-AC; Code_IPC: SOIC127P600-16
footprint SO-16_N (SOIC, 16-Leads, Body 9.9x3.9mm, Pitch 1.27mm, IPC Medium Density)
footprint SO-16_L (SOIC, 16-Leads, Body 9.9x3.9mm, Pitch 1.27mm, IPC High Density)
footprint SO-16_M (SOIC, 16-Leads, Body 9.9x3.9mm, Pitch 1.27mm, IPC Low Density)
simulation model respack_8 (Spice Subcircuit)
pins: 1, 2, 3, 4, 5, 6, 7, 8, 9, 10, 11, 12, 13, 14, 15, 16

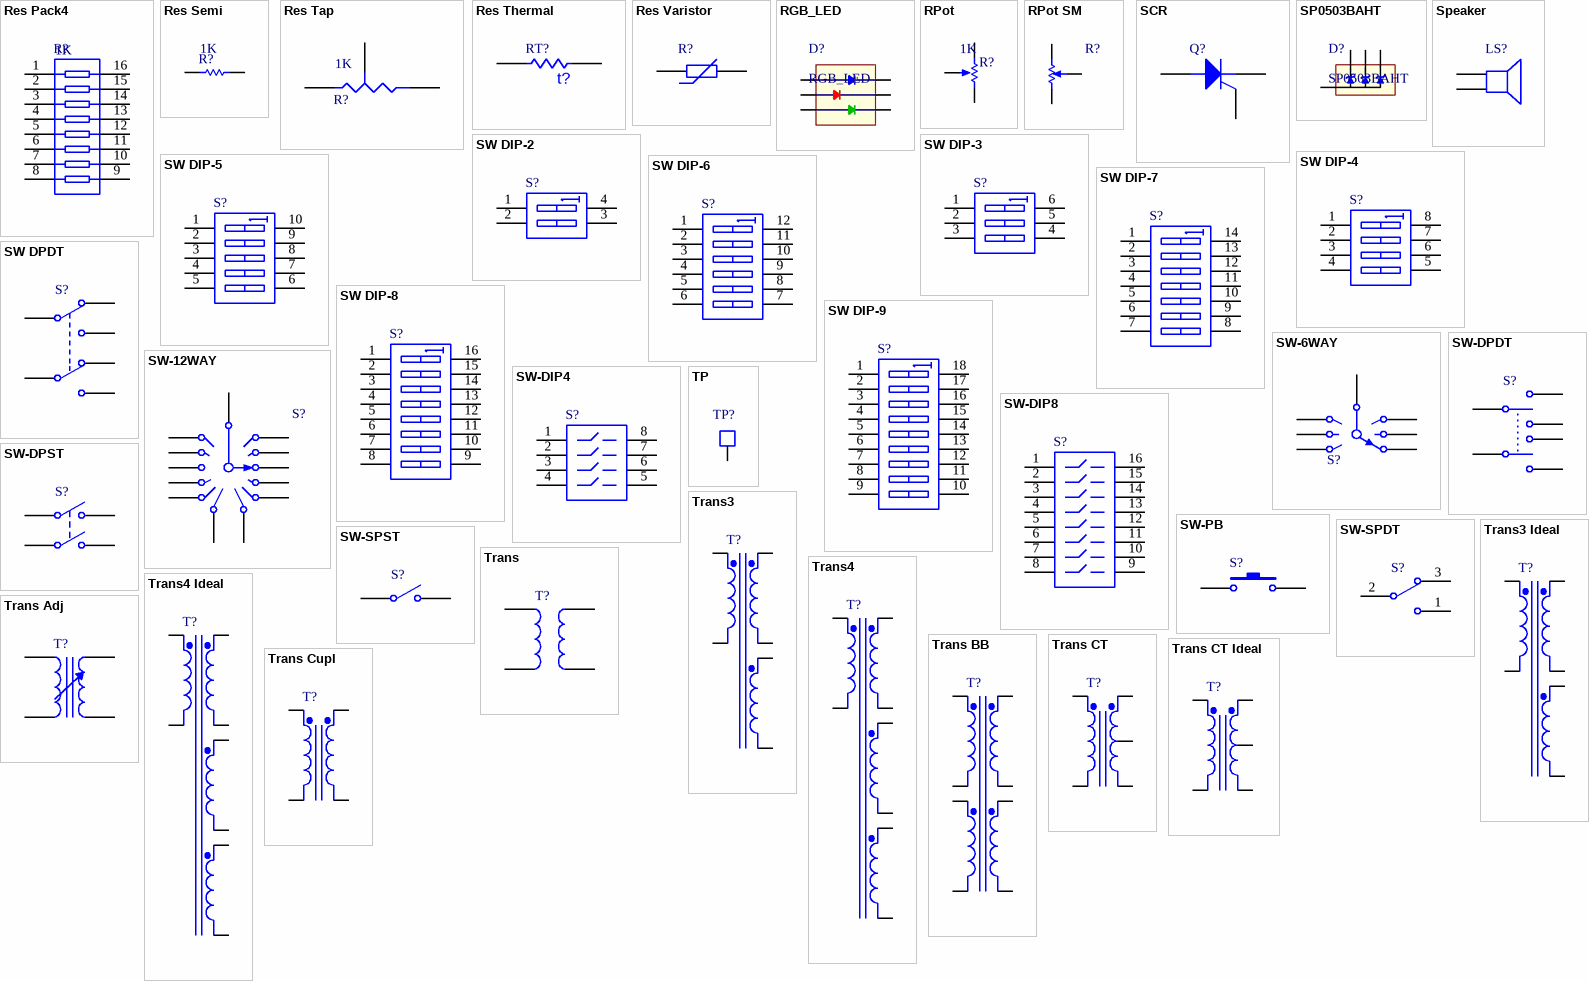
[diagram p4: symbols Res Pack4 to Trans Cupl]

## Res Pack4
designator R?  value 1K
Isolated Resistor Network; Published: 24-Mar-1999; LatestRevisionDate: 29-May-2009; LatestRevisionNote: IPC-7351 Footprint Added.; PackageVersion: Oct-2003; PackageReference: SSOP16; Publisher: Altium Limited; PackageDescription: 16-Pin Plastic Small Outline Package 0.65 mm Pitch; Code_JEDEC: MO-150-AC; Code_IPC: SOP65P780-16
footprint SSOP16_N (SOP, 16-Leads, Body 6.2x5.3mm, Pitch 0.65mm, IPC Medium Density)
footprint SSOP16_L (SOP, 16-Leads, Body 6.2x5.3mm, Pitch 0.65mm, IPC High Density)
footprint SSOP16_M (SOP, 16-Leads, Body 6.2x5.3mm, Pitch 0.65mm, IPC Low Density)
simulation model respack_8 (Spice Subcircuit)
pins: 1, 2, 3, 4, 5, 6, 7, 8, 9, 10, 11, 12, 13, 14, 15, 16

## Res Semi
designator R?  value 1K
Semiconductor Resistor; Published: 8-Jun-2000; LatestRevisionDate: 17-Jul-2002; LatestRevisionNote: Re-released for DXP Platform.; PackageReference: AXIAL-0.5; Publisher: Altium Limited; PackageDescription: Axial Device, Thru-Hole; 2 Leads; 0.5 in Pin Spacing
footprint AXIAL-0.5 (Axial Device, Thru-Hole; 2 Leads; 0.5 in Pin Spacing)
simulation model RES (Semiconductor Resistor)
signal-integrity model Res Semi
pins: 1, 2

## Res Tap
designator R?  value 1K
Tapped Resistor; Sim Note: Enter the Resistance value and the set point into parameter fields.; Set Position: 0.5; Published: 24-Mar-1999; LatestRevisionDate: 17-Jul-2002; LatestRevisionNote: Re-released for DXP Platform.; PackageReference: VR3; Publisher: Altium Limited; PackageDescription: Variable Resistor, Thru-Hole; 3 Leads
footprint VR3 (Thru-Hole; 3 Leads)
simulation model POT (Potentiometer)
signal-integrity model Res Tap
pins: 1 A, 2 B, 3 TAP

## Res Thermal
designator RT?
Thermistor; Published: 24-Mar-1999; LatestRevisionDate: 29-May-2009; LatestRevisionNote: IPC-7351 Footprint Added.; PackageVersion: Mar-2003; PackageReference: 6-0805; Publisher: Altium Limited; PackageDescription: Chip Resistor 0805 Case Size; Code_IPC: RESC2012
footprint 6-0805_N (Chip Resistor, Body 2.0x1.2mm, IPC Medium Density)
footprint 6-0805_L (Chip Resistor, Body 2.0x1.2mm, IPC High Density)
footprint 6-0805_M (Chip Resistor, Body 2.0x1.2mm, IPC Low Density)
pins: 1, 2
text: t?

## Res Varistor
designator R?
Varistor (Voltage-Sensitive Resistor); Published: 24-Mar-1999; LatestRevisionDate: 29-May-2009; LatestRevisionNote: IPC-7351 Footprint Added.; PackageVersion: Mar-2003; PackageReference: 6-0805; Publisher: Altium Limited; PackageDescription: Chip Resistor 0805 Case Size; Code_IPC: RESC2012
footprint 6-0805_N (Chip Resistor, Body 2.0x1.2mm, IPC Medium Density)
footprint 6-0805_L (Chip Resistor, Body 2.0x1.2mm, IPC High Density)
footprint 6-0805_M (Chip Resistor, Body 2.0x1.2mm, IPC Low Density)
pins: 1, 2

## RGB_LED
designator D?
footprint LED5050
pins: 1 R+, 2 G+, 3 B+, 4 B-, 5 G-, 6 R-

## RPot
designator R?  value 1K
Potentiometer; Sim Note: Enter the Resistance value and the set point into parameter fields.; Set Position: 0.5; Published: 8-Jun-2000; LatestRevisionDate: 17-Jul-2002; LatestRevisionNote: Re-released for DXP Platform.; PackageReference: VR5; Publisher: Altium Limited; PackageDescription: Variable Resistor, Thru-Hole; 3 Leads
footprint VR5 (Thru-Hole; 3 Leads)
simulation model POT (Potentiometer)
pins: 1 TOP, 2 BOT, 3 TAP
1 alternate drawing of the same symbol

## RPot SM
designator R?
Square Trimming Potentiometer; Published: 17-Dec-2003; DatasheetVersion: Oct-2003; PackageReference: POT4MM-2; Publisher: Altium Limited; PackageDescription: Square Trimming Potentiometer; ComponentLink1Description: Manufacturer Link; ComponentLink1URL: http://bourns.com/2/search.html
footprint POT4MM-2 (Square Trimming Potentiometer)
pins: CCW -, CW +, W
1 alternate drawing of the same symbol

## SCR
designator Q?
Silicon Controlled Rectifier; Published: 8-Jun-2000; LatestRevisionDate: 17-Jul-2002; LatestRevisionNote: Re-released for DXP Platform.; PackageReference: TO-220-AB; Publisher: Altium Limited; Code_JEDEC: TO-220-AB
footprint TO-220-AB (TO, Thru-Hole, Vertical, Heatsink Mounted; 3 In-Line Leads; Pitch 2.54 mm)
simulation model SCR (Spice Subcircuit)
pins: 1 A, 2 G, 3 K

## SP0503BAHT
designator D?
footprint SOT143_4 (SOT143, 4-Leads, Body 2.92x2.37mm, Pitch 1.90mm, IPC High Density)
pins: 1 GND, 2 D2, 3 D3, 4 D1

## Speaker
designator LS?
Loudspeaker; Published: 24-Mar-1999; LatestRevisionDate: 17-Jul-2002; LatestRevisionNote: Re-released for DXP Platform.; PackageReference: PIN2; Publisher: Altium Limited
footprint PIN2 (Loudspeaker; 2 Leads)
pins: 1, 2

## SW DIP-2
designator S?
DIP Switch, 2 Position, SPST; Published: 24-Mar-1999; LatestRevisionDate: 17-Jul-2002; LatestRevisionNote: Re-released for DXP Platform.; PackageReference: DIP-4; Publisher: Altium Limited
footprint DIP-4 (DIP; 4 Leads; Row Spacing 7.62 mm; Pitch 2.54 mm)
simulation model dpsw2 (Spice Subcircuit)
pins: 1 A1, 2 A2, 3 B2, 4 B1

## SW DIP-3
designator S?
DIP Switch, 3 Position, SPST; Published: 24-Mar-1999; LatestRevisionDate: 17-Jul-2002; LatestRevisionNote: Re-released for DXP Platform.; PackageReference: DIP-6; Publisher: Altium Limited; Code_JEDEC: MO-001-AM
footprint DIP-6 (DIP; 6 Leads; Row Spacing 7.62 mm; Pitch 2.54 mm)
simulation model dpsw3 (Spice Subcircuit)
pins: 1 A1, 2 A2, 3 A3, 4 B3, 5 B2, 6 B1

## SW DIP-4
designator S?
DIP Switch, 4 Position, SPST; Published: 24-Mar-1999; LatestRevisionDate: 29-May-2009; LatestRevisionNote: IPC-7351 Footprint Added.; PackageVersion: Dec-2002; PackageReference: SO8; Publisher: Altium Limited; PackageDescription: 8-Pin Small Outline Integrated Circuit 1.27 mm Pitch; Code_JEDEC: MS-012-AA; Code_IPC: SOIC127P600-8
footprint SO8_N (SOIC, 8-Leads, Body 4.9x3.9mm, Pitch 1.27mm, IPC Medium Density)
footprint SO8_L (SOIC, 8-Leads, Body 4.9x3.9mm, Pitch 1.27mm, IPC High Density)
footprint SO8_M (SOIC, 8-Leads, Body 4.9x3.9mm, Pitch 1.27mm, IPC Low Density)
simulation model dpsw4 (Spice Subcircuit)
pins: 1 A1, 2 A2, 3 A3, 4 A4, 5 B4, 6 B3, 7 B2, 8 B1

## SW DIP-5
designator S?
DIP Switch, 5 Position, SPST; Published: 24-Mar-1999; LatestRevisionDate: 17-Jul-2002; LatestRevisionNote: Re-released for DXP Platform.; PackageReference: N10A; Publisher: Altium Limited
footprint N10A (DIP; 10 Leads; Row Spacing 7.62 mm; Pitch 2.54 mm)
simulation model dpsw5 (Spice Subcircuit)
pins: 1 A1, 2 A2, 3 A3, 4 A4, 5 A5, 6 B5, 7 B4, 8 B3, 9 B2, 10 B1

## SW DIP-6
designator S?
DIP Switch, 6 Position, SPST; Published: 24-Mar-1999; LatestRevisionDate: 17-Jul-2002; LatestRevisionNote: Re-released for DXP Platform.; PackageReference: DIP-12/SW; Publisher: Altium Limited; PackageDescription: DIP Switch; 12 Leads
footprint DIP-12/SW (DIP Switch; 12 Leads)
simulation model dpsw6 (Spice Subcircuit)
pins: 1 A1, 2 A2, 3 A3, 4 A4, 5 A5, 6 A6, 7 B6, 8 B5, 9 B4, 10 B3, 11 B2, 12 B1

## SW DIP-7
designator S?
DIP Switch, 7 Position, SPST; Published: 24-Mar-1999; LatestRevisionDate: 17-Jul-2002; LatestRevisionNote: Re-released for DXP Platform.; PackageReference: DIP-14; Publisher: Altium Limited; Code_JEDEC: MO-001-AF
footprint DIP-14 (DIP; 14 Leads; Row Spacing 7.62 mm; Pitch 2.54 mm)
simulation model dpsw7 (Spice Subcircuit)
pins: 1 A1, 2 A2, 3 A3, 4 A4, 5 A5, 6 A6, 7 A7, 8 B7, 9 B6, 10 B5, 11 B4, 12 B3, 13 B2, 14 B1

## SW DIP-8
designator S?
DIP Switch, 8 Position, SPST; Published: 24-Mar-1999; LatestRevisionDate: 17-Jul-2002; LatestRevisionNote: Re-released for DXP Platform.; PackageReference: DIP_SW_8WAY_SMD; Publisher: Altium Limited; PackageDescription: DIP Switch; 16 Leads
footprint DIP_SW_8WAY_SMD (DIP Switch; 16 Leads)
simulation model dpsw8 (Spice Subcircuit)
pins: 1 A1, 2 A2, 3 A3, 4 A4, 5 A5, 6 A6, 7 A7, 8 A8, 9 B8, 10 B7, 11 B6, 12 B5, 13 B4, 14 B3, 15 B2, 16 B1

## SW DIP-9
designator S?
DIP Switch, 9 Position, SPST; Published: 24-Mar-1999; LatestRevisionDate: 17-Jul-2002; LatestRevisionNote: Re-released for DXP Platform.; PackageReference: DIP-18; Publisher: Altium Limited; Code_JEDEC: MO-036-AE
footprint DIP-18 (DIP; 18 Leads; Row Spacing 7.62 mm; Pitch 2.54 mm)
simulation model dpsw9 (Spice Subcircuit)
pins: 1 A1, 2 A2, 3 A3, 4 A4, 5 A5, 6 A6, 7 A7, 8 A8, 9 A9, 10 B9, 11 B8, 12 B7, 13 B6, 14 B5, 15 B4, 16 B3, 17 B2, 18 B1

## SW DPDT
designator S?
Switch; Published: 24-Mar-1999; LatestRevisionDate: 29-May-2009; LatestRevisionNote: IPC-7351 Footprint Added.; PackageVersion: Mar-2001; PackageReference: SOT23-6; Publisher: Altium Limited; PackageDescription: 6-Pin SOT-23 Package 0.95 mm Pitch, 2.7 mm Lead Span; Code_JEITA: SC-74; Code_IPC: SOT26A-6
footprint SOT23-6_N (SOT23, 6-Leads, Body 2.9x1.6mm, Pitch 0.95mm, Lead Span 2.7mm, IPC Medium Density)
footprint SOT23-6_L (SOT23, 6-Leads, Body 2.9x1.6mm, Pitch 0.95mm, Lead Span 2.7mm, IPC High Density)
footprint SOT23-6_M (SOT23, 6-Leads, Body 2.9x1.6mm, Pitch 0.95mm, Lead Span 2.7mm, IPC Low Density)
pins: 1 COMMON1, 2 NC1, 3 NO1, 4 NC2, 5 COMMON2, 6 NO2

## SW-6WAY
designator S?
6 Way Switch; Published: 24-Mar-1999; LatestRevisionDate: 17-Jul-2002; LatestRevisionNote: Re-released for DXP Platform.; PackageReference: SW-7; Publisher: Altium Limited; PackageDescription: Switch; 7 Leads
footprint SW-7 (Switch; 7 Leads)
pins: 1, 2, 3, 4, 5, 6, 7

## SW-12WAY
designator S?
12 Way Switch; Published: 24-Mar-1999; LatestRevisionDate: 17-Jul-2002; LatestRevisionNote: Re-released for DXP Platform.; PackageReference: DIP-13(14); Publisher: Altium Limited
footprint DIP-13(14) (DIP; 14 Leads (1 Absent); Row Spacing 7.62 mm; Pitch 2.54 mm)
pins: 1, 2, 3, 5, 6, 7, 8, 9, 10, 11, 12, 13, 14

## SW-DIP4
designator S?
DIP Switch; Published: 24-Mar-1999; LatestRevisionDate: 17-Jul-2002; LatestRevisionNote: Re-released for DXP Platform.; PackageReference: DIP-8; Publisher: Altium Limited
footprint DIP-8 (DIP; 8 Leads; Row Spacing 7.62 mm; Pitch 2.54 mm)
simulation model dpsw4 (Spice Subcircuit)
pins: 1, 2, 3, 4, 5, 6, 7, 8

## SW-DIP8
designator S?
4009 Series DIP Switch, Raised actuator; Published: 24-Mar-1999; LatestRevisionDate: 17-Dec-2003; LatestRevisionNote: PCB Footprint replaced.; PackageReference: DIP-16-KEY; Publisher: Altium Limited; PackageDescription: DIP; 16 Leads; Row Spacing 7.62 mm; Pitch 2.54 mm; ComponentLink1Description: Manufacturer Link; ComponentLink1URL: http://www.oupiin.com/prodindx.html#Headers
footprint DIP-16-KEY (DIP; 16 Leads; Row Spacing 7.62 mm; Pitch 2.54 mm)
simulation model dpsw8 (Spice Subcircuit)
pins: 1, 2, 3, 4, 5, 6, 7, 8, 9, 10, 11, 12, 13, 14, 15, 16

## SW-DPDT
designator S?
Double-Pole, Double-Throw Switch; Published: 24-Mar-1999; LatestRevisionDate: 17-Jul-2002; LatestRevisionNote: Re-released for DXP Platform.; PackageReference: DPDT-6; Publisher: Altium Limited; PackageDescription: Switch; 6 Leads
footprint DPDT-6 (Switch; 6 Leads)
pins: 1, 2, 3, 4, 5, 6

## SW-DPST
designator S?
Double-Pole, Single-Throw Switch; Published: 24-Mar-1999; LatestRevisionDate: 17-Jul-2002; LatestRevisionNote: Re-released for DXP Platform.; PackageReference: DPST-4; Publisher: Altium Limited; PackageDescription: Switch; 4 Leads
footprint DPST-4 (Switch; 4 Leads)
pins: 1 COMMON1, 2 NO1, 3 COMMON2, 4 NO2

## SW-PB
designator S?
Switch; Published: 24-Mar-1999; LatestRevisionDate: 17-Jul-2002; LatestRevisionNote: Re-released for DXP Platform.; PackageReference: SPST-2; Publisher: Altium Limited; PackageDescription: Switch; 2 Leads
footprint SPST-2 (Switch; 2 Leads)
pins: 1, 2

## SW-SPDT
designator S?
SPDT Subminiature Toggle Switch, Right Angle Mounting, Vertical Actuation; Published: 24-Mar-1999; LatestRevisionDate: 17-Dec-2003; LatestRevisionNote: Schematic revised, PCB Footprint replaced.; DatasheetVersion: 05-Dec-2000; PackageReference: TL36WW15050; Publisher: Altium Limited; PackageDescription: Switch; 4 Leads; ComponentLink1Description: Manufacturer Link; ComponentLink1URL: http://www.apem.com
footprint TL36WW15050 (Switch; 4 Leads)
pins: 1, 2, 3

## SW-SPST
designator S?
Single-Pole, Single-Throw Switch; Published: 24-Mar-1999; LatestRevisionDate: 17-Jul-2002; LatestRevisionNote: Re-released for DXP Platform.; PackageReference: SPST-2; Publisher: Altium Limited; PackageDescription: Switch; 2 Leads
footprint SPST-2 (Switch; 2 Leads)
pins: 1 COMMON, 2 NO

## TP
designator TP?  (value not drawn)
footprint TP0_8 (Test Point)
pins: 1 TP

## Trans
designator T?
Transformer; Published: 24-Mar-1999; LatestRevisionDate: 08-Jul-2005; LatestRevisionNote: Mech Layer 1 removed.; PackageReference: TRANS; Publisher: Altium Limited; PackageDescription: Transformer; 4 Leads
footprint TRANS (Transformer; 4 Leads)
simulation model TRANSFORMER (Transformer)
pins: 1, 2, 3, 4

## Trans3
designator T?
Three-winding Transformer (Non-Ideal); Sim Note: Enter the turns ratios, Core loss resistance, Magnetising Reactance, Leakage Reactances and Resistances referred to the primary side into the parameter fields.; Published: 25-Jan-2001; LatestRevisionDate: 17-Jul-2002; LatestRevisionNote: Re-released for DXP Platform.; PackageReference: TRF_6; Publisher: Altium Limited; PackageDescription: Transformer; 6 Leads
footprint TRF_6 (Transformer; 6 Leads)
simulation model NI3WTRANS (Spice Subcircuit)
pins: 1 Pri+, 2 Pri-, 3 Sec1+, 4 Sec1-, 5 Sec2+, 6 Sec2-

## Trans3 Ideal
designator T?
Three-winding Transformer (Ideal); Published: 25-Jan-2001; LatestRevisionDate: 17-Jul-2002; LatestRevisionNote: Re-released for DXP Platform.; PackageReference: TRF_6; Publisher: Altium Limited; PackageDescription: Transformer; 6 Leads
footprint TRF_6 (Transformer; 6 Leads)
simulation model IDEAL3W (Spice Subcircuit)
pins: 1 Pri+, 2 Pri-, 3 Sec1+, 4 Sec1-, 5 Sec2+, 6 Sec2-